# EAGLE library part BQ25570 (library FaBo-Solar)
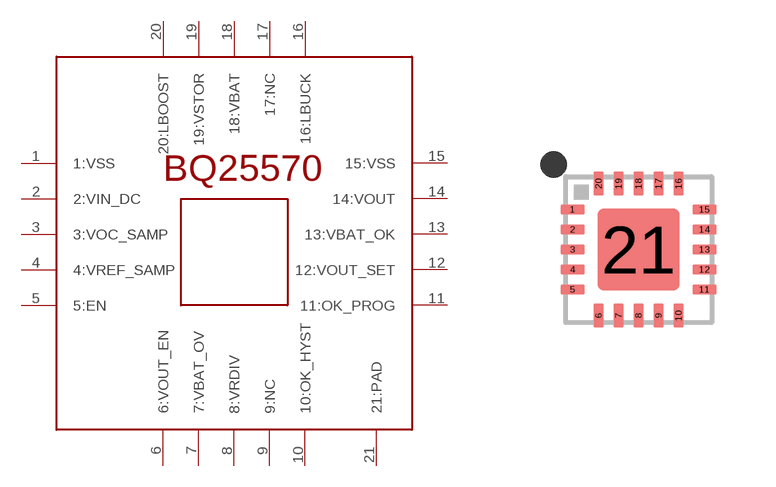
[diagram p1: symbol with the pads of VQFN; footprint VQFN]

Designator prefix -

## BQ25570  [VQFN]
1  1:VSS  sup
2  2:VIN_DC  pwr
3  3:VOC_SAMP  in
4  4:VREF_SAMP  in
5  5:EN  in
6  6:VOUT_EN  in
7  7:VBAT_OV  in
8  8:VRDIV  out
9  9:NC  nc
10  10:OK_HYST  in
11  11:OK_PROG  in
12  12:VOUT_SET  in
13  13:VBAT_OK  out
14  14:VOUT  out
15  15:VSS  sup
16  16:LBUCK
17  17:NC  nc
18  18:VBAT
19  19:VSTOR  out
20  20:LBOOST
21  21:PAD  sup

## Footprint VQFN (pad centres in mm)
smd 0.6 x 0.24: 1 -1.65,1; 2 -1.65,0.5; 3 -1.65,0; 4 -1.65,-0.5; 5 -1.65,-1; 11 1.65,-1; 12 1.65,-0.5; 13 1.65,0; 14 1.65,0.5; 15 1.65,1
smd 0.24 x 0.6: 6 -1,-1.65; 7 -0.5,-1.65; 8 0,-1.65; 9 0.5,-1.65; 10 1,-1.65; 16 1,1.65; 17 0.5,1.65; 18 0,1.65; 19 -0.5,1.65; 20 -1,1.65
smd 2.05 x 2.05: 21 0,0